# Altium footprint library pcb_library.PcbLib: 29 footprints (part 2 of 2)
Each footprint in its own frame and in the unit in brackets; x right, y up, seen from the top. Pads: shape width x height; smd on the part's side, far side on the other; paste and mask are expansions set on the pad; w line width, h text height; cw(c..) or ccw(c..) is an arc to the next point about the centre after c.
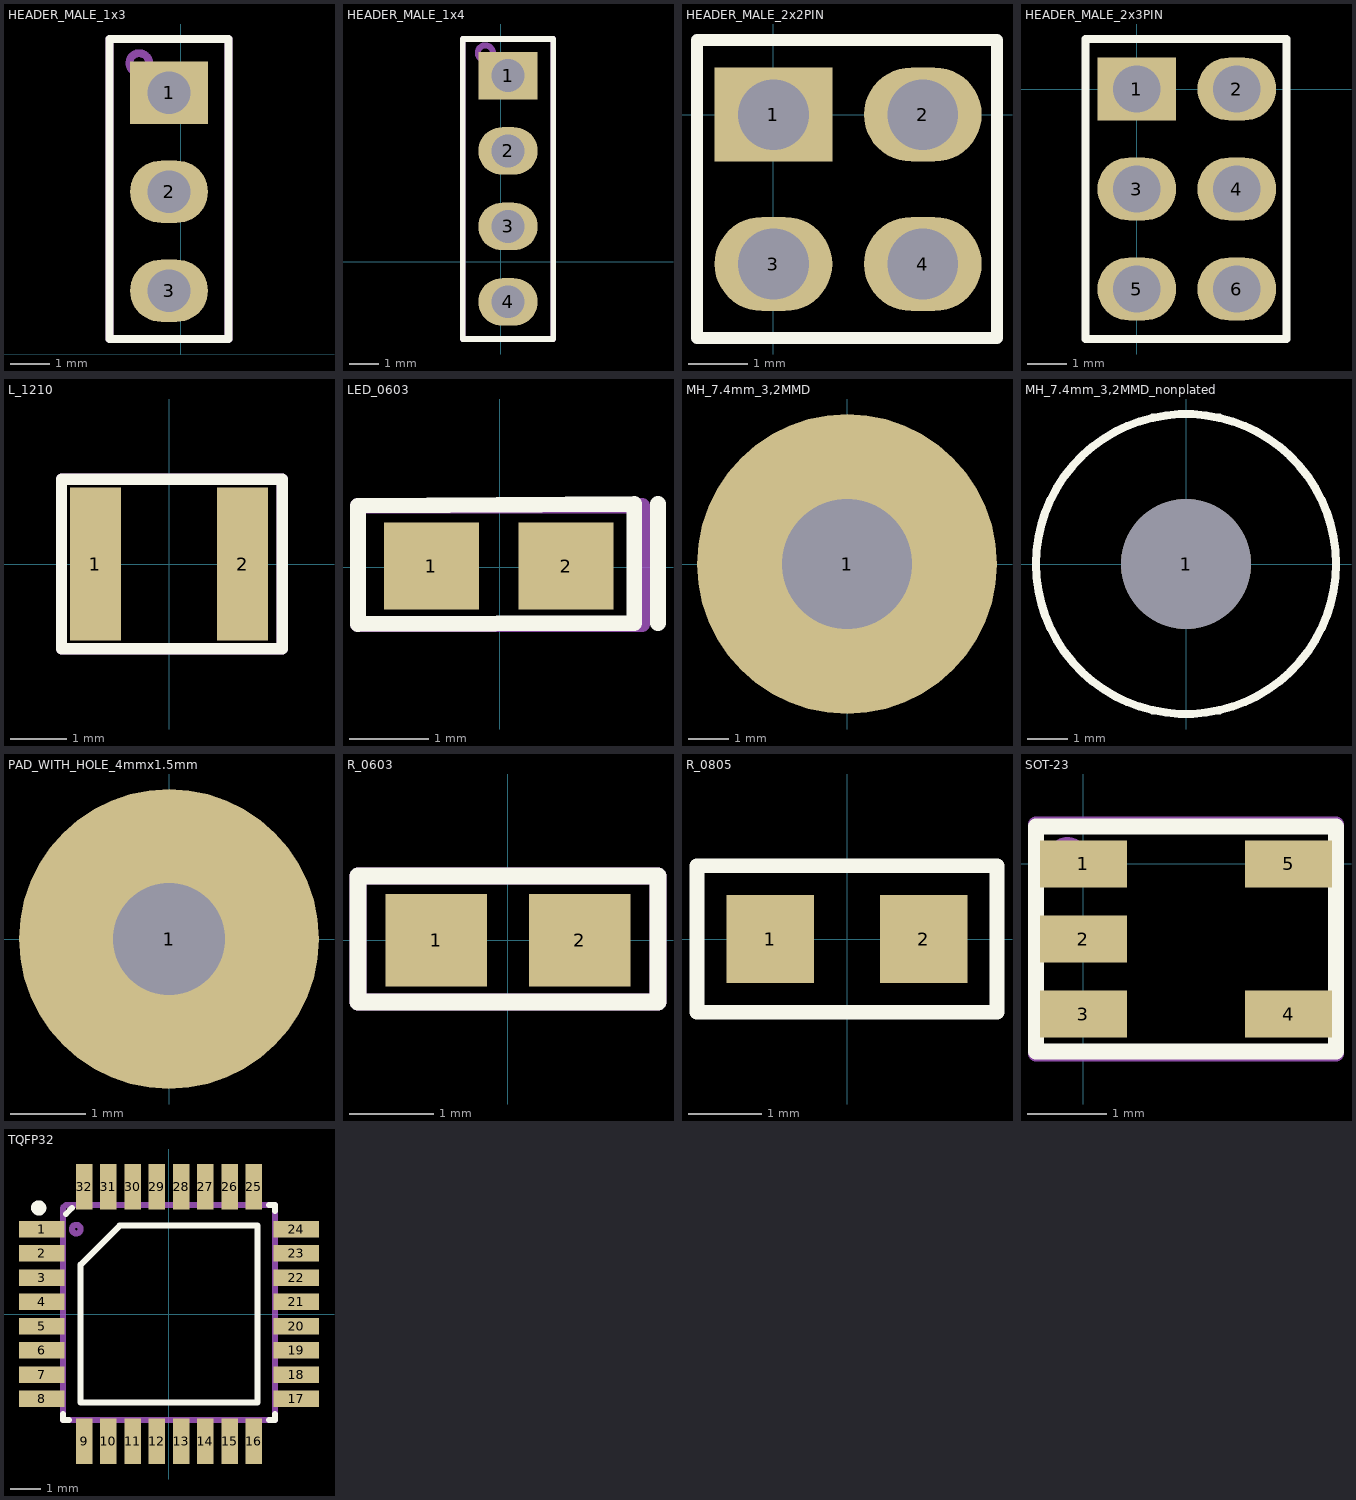
[diagram p1: the footprints below, top view; thin cyan lines are the x and y axes]

## HEADER_MALE_1x3 [mm]
pads (3):
  rect 2x1.6 hole 1.1: 1(-0.304,6.72)
  oval 2x1.6 hole 1.1: 2(-0.304,4.18) 3(-0.304,1.64)
Top Overlay:
  lines w0.2: -1.828,0.4 -1.828,8.1 1.22,8.1 1.22,0.4 -1.828,0.4
Mechanical 29:
  circle w0.2: c-1.066,7.482 r0.254
  lines w0.2: -1.828,0.4 -1.828,8.1 1.22,8.1 1.22,0.4 -1.828,0.4
  text ".Designator" at -0.121,0.854 h0.8
3D body "M20-9990345.stp": height 8.64, standoff -3, extent -1.54,0.39 1,8.01

## HEADER_MALE_1x4 [mm]
pads (4):
  rect 2x1.6 hole 1.1: 1(0.247,6.27)
  oval 2x1.6 hole 1.1: 2(0.247,3.73) 3(0.247,1.19) 4(0.247,-1.35)
Top Overlay:
  lines w0.2: -1.277,-2.6 1.771,-2.6 1.771,7.5 -1.277,7.5 -1.277,-2.6
Mechanical 29:
  circle w0.2: c-0.515,7.032 r0.254
  lines w0.2: -1.277,-2.6 1.771,-2.6 1.771,7.5 -1.277,7.5 -1.277,-2.6
  text ".Designator" at 0.479,-2.046 h0.8
3D body "M20-9990445.stp": height 8.64, standoff -3, extent -1.023,-2.62 1.517,7.54

## HEADER_MALE_2x2PIN [mm]
pads (4):
  rect 2x1.6 / inner rect 2x1.2 / far side rect 2x1.6 hole 1.2: 1(0,0)
  oval 2x1.6 / inner oval 2x1.2 / far side oval 2x1.6 hole 1.2: 2(2.54,0) 3(0,-2.54) 4(2.54,-2.54)
Top Overlay:
  lines w0.2: 0.635,1.27 3.8,1.27 3.8,-3.8 -1.3,-3.8 -1.3,1.27 1.905,1.27
3D body "m20-9760246_asm.stp": height 7.75, standoff -3.73, extent -1.2,-3.74 3.88,1.34

## HEADER_MALE_2x3PIN [mm]
pads (6):
  rect 2x1.6 / inner rect 2x1.2 / far side rect 2x1.6 hole 1.2: 1(0,0)
  oval 2x1.6 / inner oval 2x1.2 / far side oval 2x1.6 hole 1.2: 2(2.54,0) 3(0,-2.54) 4(2.54,-2.54) 5(0,-5.08) 6(2.54,-5.08)
Top Overlay:
  lines w0.2: 0.635,1.27 3.8,1.27 3.8,-6.35 -1.3,-6.35 -1.3,1.27 1.905,1.27
3D body "m20-9980346_asm.stp": height 8.64, standoff -3.04, extent -1.34,-6.32 3.74,1.3

## L_1210 [mm]
pads (2):
  rect 0.9x2.7 smd: 1(-1.3,0) 2(1.3,0)
Top Overlay:
  lines w0.2: -1.9,-1.5 2,-1.5 2,1.5 -1.9,1.5 -1.9,-1.2 -1.9,-1.5
Mechanical 29:
  lines w0.2: -1.9,-1.5 2,-1.5 2,1.5 -1.9,1.5 -1.9,-1.5
  text ".Designator" at -1.246,-0.179 h0.8
3D body "L1210R2R2MDWIT.stp": height 2.7, standoff 0, extent -1.6,-1.25 1.6,1.25

## LED_0603 [mm]
pads (2):
  rect 1.2x1.1 smd: 1(-0.862,0.018) 2(0.838,0.018)
Top Overlay:
  lines w0.2: 2,-0.7 2,0.8 ; -1.79,-0.712 -1.79,0.78 1.7,0.8 1.7,-0.7 -1.79,-0.712
Mechanical 29:
  lines w0.2: -1.79,-0.712 1.8,-0.712 1.8,0.78 -1.79,0.78
  text ".Designator" at -1.536,-0.192 h0.8
3D body "LO_L29K-H2K1-24-Z.stp": height 0.67, standoff 0, extent -0.85,-0.4 0.85,0.4

## MH_7.4mm_3,2MMD [mm]
pads (1):
  round 7.4 hole 3.2: 1(0,0)

## MH_7.4mm_3,2MMD_nonplated [mm]
pads (1):
  round 3.2 hole 3.2 unplated: 1(0,0)
Top Overlay:
  circle w0.2: c0,0 r3.7

## PAD_WITH_HOLE_4mmx1.5mm [mm]
pads (1):
  round 4 hole 1.5: 1(0,0)

## R_0603 [mm]
pads (2):
  rect 1.2x1.1 smd: 1(-0.85,0) 2(0.85,0)
Top Overlay:
  lines w0.2: -1.778,-0.73 -1.778,0.478 -1.778,0.762 1.778,0.762 1.778,-0.73 -1.778,-0.73
Mechanical 29:
  lines w0.2: -1.778,-0.73 -1.778,0.762 1.778,0.762 1.778,-0.73 -1.778,-0.73
  text ".Designator" at -1.524,-0.21 h0.8
3D body "RC0603FR-071ML.stp": height 0.55, standoff 0, extent -0.8,-0.4 0.8,0.4

## R_0805 [mm]
pads (2):
  rect 1.2x1.2 smd: 1(-1.05,0) 2(1.05,0)
Top Overlay:
  lines w0.2: -2.05,-1 2.05,-1 2.05,1 -2.05,1 -2.05,0 -2.05,-1
3D body "RC0805FR-0722RL.stp": height 0.6, standoff 0, extent -1,-0.625 1,0.625

## SOT-23 [mm]
pads (5):
  rect 1.1x0.6 smd: 1(0,0) 2(0,-0.95) 3(0,-1.9) 4(2.6,-1.9) 5(2.6,0)
Top Overlay:
  lines w0.2: 1.215,0.475 1.538,0.475 ; -0.6,-2.375 3.2,-2.375 3.2,0.475 1.062,0.475 -0.6,0.475 -0.6,-2.375
Mechanical 29:
  circle w0.2: c-0.2,0.1 r0.141
  lines w0.2: -0.6,-2.4 -0.6,0.5 3.2,0.5 3.2,-2.4 -0.6,-2.4
  text ".Designator" at 0.054,-0.879 h0.8
3D body "SN74AHC1G09DBVR.stp": height 1.45, standoff 0, extent -0.1,-2.4 2.7,0.5

## TQFP32 [mm]
pads (32):
  rect 1.5x0.55 smd mask+0.06: 1(-4.2,2.8) 2(-4.2,2) 3(-4.2,1.2) 4(-4.2,0.4) 5(-4.2,-0.4) 6(-4.2,-1.2) 7(-4.2,-2) 8(-4.2,-2.8) 17(4.2,-2.8) 18(4.2,-2) 19(4.2,-1.2) 20(4.2,-0.4) 21(4.2,0.4) 22(4.2,1.2) 23(4.2,2) 24(4.2,2.8)
  rect 0.55x1.5 smd mask+0.06: 9(-2.8,-4.2) 10(-2,-4.2) 11(-1.2,-4.2) 12(-0.4,-4.2) 13(0.4,-4.2) 14(1.2,-4.2) 15(2,-4.2) 16(2.8,-4.2) 25(2.8,4.2) 26(2,4.2) 27(1.2,4.2) 28(0.4,4.2) 29(-0.4,4.2) 30(-1.2,4.2) 31(-2,4.2) 32(-2.8,4.2)
Top Overlay:
  circle w0.3: c-4.3,3.5 r0.1
  lines w0.2: -3.5,-3.3 -3.5,-3.5 -3.3,-3.5 ; -3.4,3.3 -3.2,3.5 ; 3.3,-3.5 3.5,-3.5 3.5,-3.3 ; 3.3,3.6 3.5,3.6 3.5,3.4 ; -2.915,-2.915 2.915,-2.915 2.915,2.915 -1.63,2.915 -2.915,1.63 -2.915,-2.915
Mechanical 29:
  circle w0.2: c-3.059,2.8 r0.141
  lines w0.2: -3.5,-3.5 -3.5,3.5 -3.4,3.6 3.5,3.6 3.5,-3.5 -3.5,-3.5
  text ".Designator" at -1.546,-0.279 h0.8
3D body "User Library-tqfp32.step": height 1.2, standoff 0, extent -4.602,-4.599 4.596,4.6